# Altium schematic symbol library AwesomeComponents.SchLib: 8 symbols
Pins are listed as number, name and electrical type; pins without a type are passive.

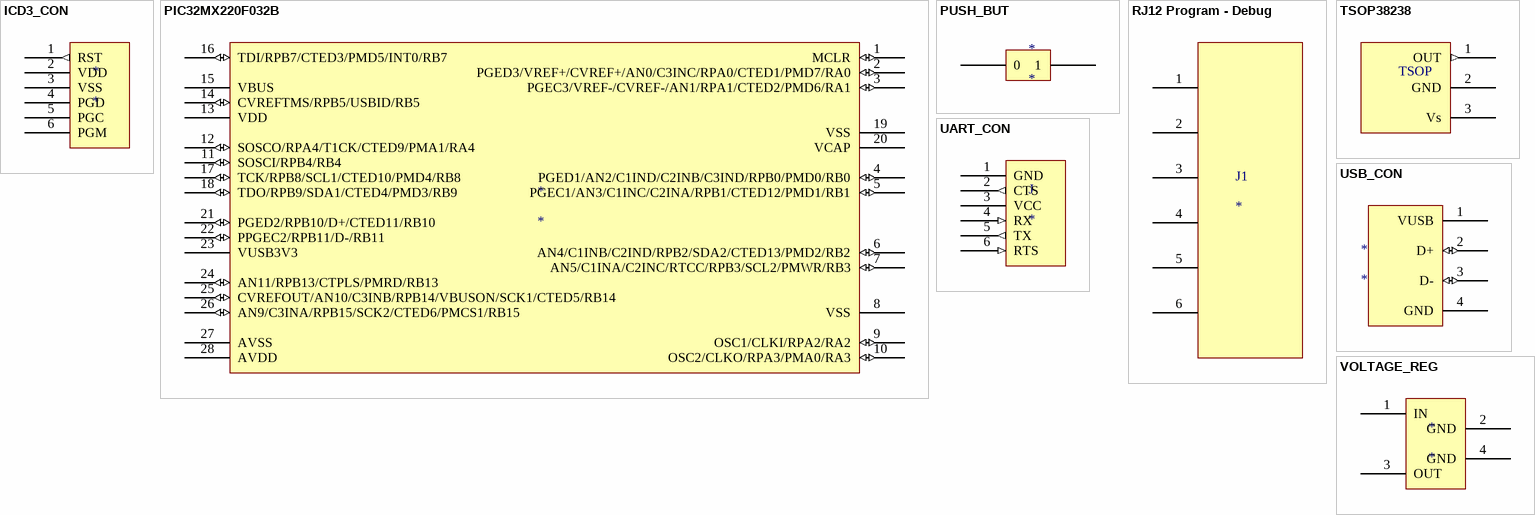
[diagram p0: symbols ICD3_CON to VOLTAGE_REG]

## ICD3_CON
designator *
Fournisseur: Farnell
footprint 6-pins
pins: 1 RST (out), 2 VDD (power), 3 VSS (power), 4 PGD (power), 5 PGC (power), 6 PGM (power)

## PIC32MX220F032B
designator *
Fabricant: Microchip; Fournisseur: Farnell
footprint PIC32MX220
pins: 1 MCLR (io), 2 PGED3/VREF+/CVREF+/AN0/C3INC/RPA0/CTED1/PMD7/RA0 (io), 3 PGEC3/VREF-/CVREF-/AN1/RPA1/CTED2/PMD6/RA1 (io), 4 PGED1/AN2/C1IND/C2INB/C3IND/RPB0/PMD0/RB0 (io), 5 PGEC1/AN3/C1INC/C2INA/RPB1/CTED12/PMD1/RB1 (io), 6 AN4/C1INB/C2IND/RPB2/SDA2/CTED13/PMD2/RB2 (io), 7 AN5/C1INA/C2INC/RTCC/RPB3/SCL2/PMWR/RB3 (io), 8 VSS (power), 9 OSC1/CLKI/RPA2/RA2 (io), 10 OSC2/CLKO/RPA3/PMA0/RA3 (io), 11 SOSCI/RPB4/RB4 (io), 12 SOSCO/RPA4/T1CK/CTED9/PMA1/RA4 (io), 13 VDD (power), 14 CVREFTMS/RPB5/USBID/RB5 (io), 15 VBUS (power), 16 TDI/RPB7/CTED3/PMD5/INT0/RB7 (io), 17 TCK/RPB8/SCL1/CTED10/PMD4/RB8 (io), 18 TDO/RPB9/SDA1/CTED4/PMD3/RB9 (io), 19 VSS (power), 20 VCAP (power), 21 PGED2/RPB10/D+/CTED11/RB10 (io), 22 PPGEC2/RPB11/D-/RB11 (io), 23 VUSB3V3 (power), 24 AN11/RPB13/CTPLS/PMRD/RB13 (io), 25 CVREFOUT/AN10/C3INB/RPB14/VBUSON/SCK1/CTED5/RB14 (io), 26 AN9/C3INA/RPB15/SCK2/CTED6/PMCS1/RB15 (io), 27 AVSS (power), 28 AVDD (power)

## PUSH_BUT
designator *
Fournisseur: Farnell
footprint PUSH_BUTTON (1437566-3)
pins: 0 (power), 1 (power)

## RJ12 Program - Debug
designator J1
Fournisseur: Farnell
footprint 6-pins
pins: 1 Out (power), 2 Out (power), 3 Out (power), 4 Out (power), 5 Out (power), 6 Out (power)

## TSOP38238
designator TSOP, comment IR Receiver  (value not drawn)
Fabricant: Vishay; Fournisseur: Farnell; RefFabricant: TSOP38238; RefFournisseur: 2251359
footprint TSOP38238
pins: 1 OUT (out), 2 GND (power), 3 Vs (power)

## UART_CON
designator J
Fournisseur: Farnell
footprint 6-pins
pins: 1 GND (power), 2 CTS (out), 3 VCC (power), 4 RX (in), 5 TX (out), 6 RTS (in)

## USB_CON
designator *
USB_fem_2.0; Fournisseur: Farnell; RefFournisseur: 1753809; Fabricant: SAMTEC; RefFabricant: USBR‐B‐S‐S‐O‐TH
footprint USB_B_FEM
pins: 1 VUSB (power), 2 D+ (io), 3 D- (io), 4 GND (power)

## VOLTAGE_REG
designator *
Fabricant: Microchip; Fournisseur: Farnell; RefFabricant: MCP1824ST‐3302E/DB; RefFournisseur: 1578379
footprint LDO_REG
pins: 1 IN (power), 2 GND (power), 3 OUT (power), 4 GND (power)